# Altium schematic symbol library STM32F303RBT6.SchLib: 1 symbol
Pins are listed as number, name and electrical type; pins without a type are passive.

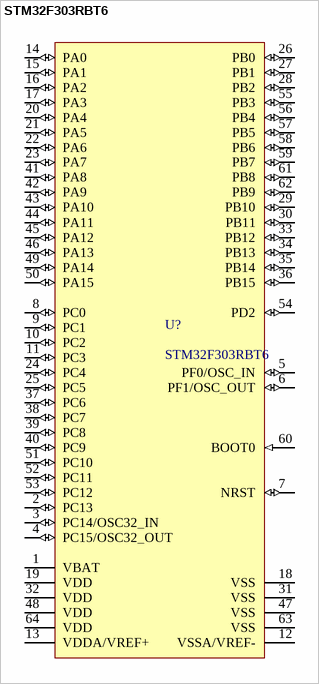
[diagram p0: symbol STM32F303RBT6]

## STM32F303RBT6
designator U?
footprint LQFP64-10x10mm
footprint STM-LQFP64_L
footprint STM-LQFP64_M
footprint STM-LQFP64_N
pins: 1 VBAT (power) "Backup power supply", 2 PC13 (io) "PC13/TIM1_CH1N/RTC_TAMP1/RTC_TS/RTC_OUT/WKUP2", 3 PC14/OSC32_IN (io), 4 PC15/OSC32_OUT (io), 5 PF0/OSC_IN (io) "PF0/TIM1_CH3N/OSC_IN", 6 PF1/OSC_OUT (io), 7 NRST (io) "Device reset input/internal reset output (active low)", 8 PC0 (io) "PC0/EVENTOUT,TIM1_CH1/ADC12_IN6", 9 PC1 (io) "PC1/EVENTOUT,TIM1_CH2/ADC12_IN7", 10 PC2 (io) "PC2/EVENTOUT,TIM1_CH3/ADC12_IN8", 11 PC3 (io) "PC3/EVENTOUT,TIM1_CH4,TIM1_BKIN2/ADC12_IN9", 12 VSSA/VREF- (power) "Analog ground/Negative reference voltage", 13 VDDA/VREF+ (power) "Analog power supply/Positive reference voltage", 14 PA0 (io) "PA0/TIM2_CH1/TIM2_ETR,TSC_G1_IO1,USART2_CTS,EVENTOUT/ADC1_IN1,RTC_TAMP2/WKUP1", 15 PA1 (io) "PA1/TIM2_CH2,TSC_G1_IO2,USART2_RTS_DE,TIM15_CH1N,EVENTOUT/ADC1_IN2,RTC_REFIN", 16 PA2 (io) "PA2/TIM2_CH3,TSC_G1_IO3,USART2_TX,COMP2_OUT,TIM15_CH1,EVENTOUT/ADC1_IN3,COMP2_INM", 17 PA3 (io) "PA3/TIM2_CH4,TSC_G1_IO4,USART2_RX,TIM15_CH2,EVENTOUT/ADC1_IN4", 18 VSS (power) "Ground", 19 VDD (power) "Digital power supply", 20 PA4 (io) "PA4/TIM3_CH2,TSC_G2_IO1,SPI1_NSS,USART2_CK,EVENTOUT/ADC2_IN1,DAC1_OUT1,COMP2_INM4,COMP4_INM4,COMP6_INM4", 21 PA5 (io) "PA5/TIM2_CH1/TIM2_ETR,TSC_G2_IO2,SPI1_SCK,EVENTOUT/ADC2_IN2,DAC1_OUT2,OPAMP2_VINM", 22 PA6 (io) "PA6/TIM16_CH1,TIM3_CH1,TSC_G2_IO3,SPI1_MISO,TIM1_BKIN,EVENTOUT/ADC2_IN3,DAC2_OUT1,OPAMP2_VOUT", 23 PA7 (io) "PA7/TIM17_CH1,TIM3_CH2,TSC_G2_IO4,SPI1_MOSI,TIM1_CH1N,EVENTOUT/ADC2_IN4,COMP2_INP,OPAMP2_VINP", 24 PC4 (io) "PC4/EVENTOUT,TIM1_ETR,USART1_TX/ADC2_IN5", 25 PC5 (io) "PC5/EVENTOUT,TIM15_BKIN,TSC_G3_IO1,USART1_RX/ADC2_IN11,OPAMP2_VINM", 26 PB0 (io) "PB0/TIM3_CH3,TSC_G3_IO2,TIM1_CH2N,EVENTOUT/ADC1_IN11,COMP4_INP,OPAMP2_VINP", 27 PB1 (io) "PB1/TIM3_CH4,TSC_G3_IO3,TIM1_CH3N,COMP4_OUT,EVENTOUT/ADC1_IN12", 28 PB2 (io) "PB2/TSC_G3_IO4,EVENTOUT/ADC2_IN12,COMP4_INM", 29 PB10 (io) "PB10/TIM2_CH3,TSC_SYNC,USART3_TX,EVENTOUT", 30 PB11 (io) "PB11/TIM2_CH4,TSC_G6_IO1,USART3_RX,EVENTOUT/COMP6_INP", 31 VSS (power) "Digital ground", 32 VDD (power) "Digital power supply", 33 PB12 (io) "PB12/TSC_G6_IO2,TIM1_BKIN,USART3_CK,EVENTOUT/ADC2_IN13", 34 PB13 (io) "PB13/TSC_G6_IO3,TIM1_CH1N,USART3_CTS,EVENTOUT/ADC1_IN13", 35 PB14 (io) "PB14/TIM15_CH1,TSC_G6_IO4,TIM1_CH2N,USART3_RTS_DE,EVENTOUT/ADC2_IN14,OPAMP2_VINP", 36 PB15 (io) "PB15/TIM15_CH2,TIM15_CH1N,TIM1_CH3N,EVENTOUT/ADC2_IN15,COMP6_INM,RTC_REFIN", 37 PC6 (io) "PC6/EVENTOUT,TIM3_CH1,COMP6_OUT", 38 PC7 (io) "PC7/EVENTOUT,TIM3_CH2", 39 PC8 (io) "PC8/EVENTOUT,TIM3_CH3", 40 PC9 (io) "PC9/EVENTOUT,TIM3_CH4", 41 PA8 (io) "PA8/MCO,TIM1_CH1,USART1_CK,EVENTOUT", 42 PA9 (io) "PA9/TSC_G4_IO1,TIM1_CH2,USART1_TX,TIM15_BKIN,TIM2_CH3,EVENTOUT", 43 PA10 (io) "PA10/TIM17_BKIN,TSC_G4_IO2,TIM1_CH3,USART1_RX,COMP6_OUT,TIM2_CH4,EVENTOUT", 44 PA11 (io) "PA11/TIM1_CH1N,USART1_CTS,CAN_RX,TIM1_CH4,TIM1_BKIN2,EVENTOUT", 45 PA12 (io) "PA12/TIM16_CH1,TIM1_CH2N,USART1_RTS_DE,COMP2_OUT,CAN_TX,TIM1_ETR,EVENTOUT", 46 PA13 (io) "PA13/JTMS/SWDAT,TIM16_CH1N,TSC_G4_IO3,IR_OUT,USART3_CTS,EVENTOUT", 47 VSS (power) "Ground", 48 VDD (power) "Digital power supply", 49 PA14 (io) "PA14/JTCK/SWCLK,TSC_G4_IO4,I2C1_SDA,TIM1_BKIN,USART2_TX,EVENTOUT", 50 PA15 (io) "PA15/JTDI,TIM2_CH1/TIM2_ETR,TSC_SYNC,I2C1_SCL,SPI1_NSS,USART2_RX,TIM1_BKIN,EVENTOUT", 51 PC10 (io) "PC10/EVENTOUT,USART3_TX", 52 PC11 (io) "PC11/EVENTOUT,USART3_RX", 53 PC12 (io) "PC12/EVENTOUT,USART3_CK", 54 PD2 (io) "PD2/EVENTOUT,TIM3_ETR", 55 PB3 (io) "PB3/JTDO/TRACESWO,TIM2_CH2,TSC_G5_IO1,SPI1_SCK,USART2_TX,TIM3_ETR,EVENTOUT", 56 PB4 (io) "PB4/NJTRST,TIM16_CH1,TIM3_CH1,TSC_G5_IO2,SPI1_MISO,USART2_RX,TIM17_BKIN,EVENTOUT", 57 PB5 (io) "PB5/TIM16_BKIN,TIM3_CH2,I2C1_SMBA,SPI1_MOSI,USART2_CK,TIM17_CH1,EVENTOUT", 58 PB6 (io) "PB6/TIM16_CH1N,TSC_G5_IO3,I2C1_SCL,USART1_TX,EVENTOUT", 59 PB7 (io) "PB7/TIM17_CH1N,TSC_G5_IO4,I2C1_SDA,USART1_RX,TIM3_CH4,EVENTOUT", 60 BOOT0 (in) "Boot memory selection", 61 PB8 (io) "PB8/TIM16_CH1,TSC_SYNC,I2C1_SCL,USART3_RX,CAN_RX,TIM1_BKIN,EVENTOUT", 62 PB9 (io) "PB9/TIM17_CH1,I2C1_SDA,IR_OUT,USART3_TX,COMP2_OUT,CAN_TX,EVENTOUT", 63 VSS (power) "Ground", 64 VDD (power) "Digital power supply"